# EAGLE library part MOSFET-N (library dualfet)
Dual N-Channel MOSFET For example: Rohm Semiconductor 2.5V Drive Nch+Nch MOS FET <http://www.digikey.com/product-detail/en/QS6K1TR/QS6K1CT-ND/721551?cur=USD> Fairchild Semiconductor Dual N-Channel 2.5V Specified PowerTrenchTM MOSFET (FDC6305N) <http://www.digikey.com/product-detail/en/FDC6305N/FDC6305NCT-ND/965582>
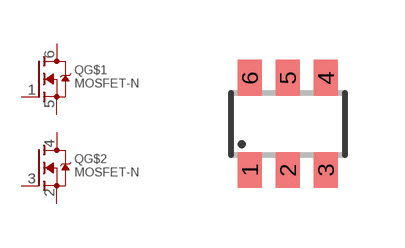
[diagram p0: symbol with the pads of SOT23-6; footprint SOT23-6]

Designator prefix Q; gates G$1=MOSFET-N G$2=MOSFET-N

## MOSFET-N  [SOT23-6]
1  G$1:G
2  G$2:S
3  G$2:G
4  G$2:D
5  G$1:S
6  G$1:D

## Footprint SOT23-6 (pad centres in mm)
Small Outline Transistor 6 lead Basically same as Fairchild Semiconductors SuperSOT-6
smd 0.6 x 0.9: 1 -0.95,-1.15; 2 0,-1.15; 3 0.95,-1.15; 4 0.95,1.15; 5 0,1.15; 6 -0.95,1.15